# Altium schematic symbol library tps259401aqrvcrq1.SchLib: 1 symbol
Pins are listed as number, name and electrical type; pins without a type are passive.

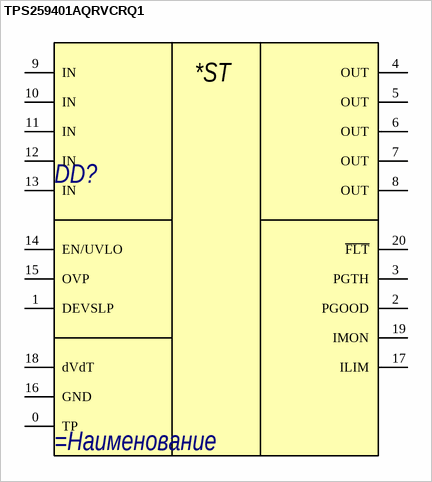
[diagram p0: symbol TPS259401AQRVCRQ1]

## TPS259401AQRVCRQ1
designator DD?
=Описание
pins: 0 TP, 1 DEVSLP, 2 PGOOD, 3 PGTH, 4 OUT, 5 OUT, 6 OUT, 7 OUT, 8 OUT, 9 IN, 10 IN, 11 IN, 12 IN, 13 IN, 14 EN/UVLO, 15 OVP, 16 GND, 17 ILIM, 18 dVdT, 19 IMON, 20 ~{FLT}
text: *ST